# Altium integrated library RC0805FR-0720RL.IntLib: 1 symbol
Pins are listed as number, name and electrical type; pins without a type are passive.

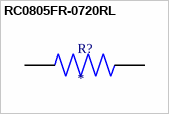
[diagram p0: symbol RC0805FR-0720RL]

## RC0805FR-0720RL
designator R?
Res Thick Film 0805 20 Ohm 1% 0.125W(1/8W) Â±100ppm/C Epoxy Pad SMD T/R; MP: RC0805FR-0720RL; Package: None; Price: None; Value: *; Availability: Unavailable
footprint RESC2012X60N
pins: 1, 2